# EAGLE library part AT24C02B (library tecsmith_custom_nick_nacks)
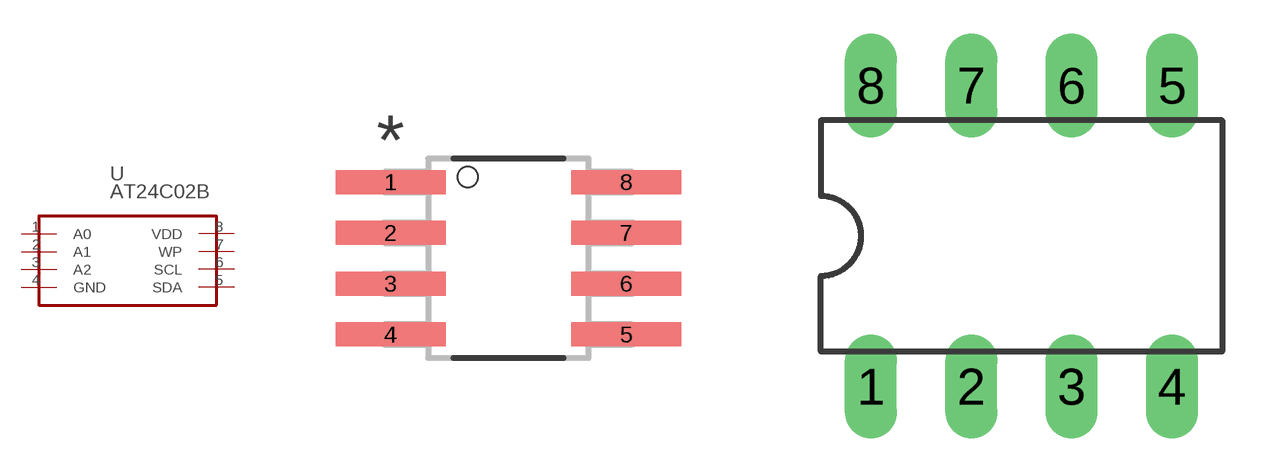
[diagram p5: symbol with the pads of SOIC8-SOP8-SO8-WIDE; footprints SOIC8-SOP8-SO8-WIDE, DIL08]

Designator prefix -

## AT24C02B  [SOIC8-SOP8-SO8-WIDE]
1  A0  in
2  A1  in
3  A2  in
4  GND  pas
5  SDA
6  SCL
7  WP
8  VDD  pwr

## AT24C02BDIL-8  [DIL08]
Pads as for SOIC8-SOP8-SO8-WIDE

## Footprint SOIC8-SOP8-SO8-WIDE (pad centres in mm)
smd 2.75 x 0.6: 1 -2.947,1.905; 2 -2.947,0.635; 3 -2.947,-0.635; 4 -2.947,-1.905; 5 2.947,-1.905; 6 2.947,-0.635; 7 2.947,0.635; 8 2.947,1.905

## Footprint DIL08 (pad centres in mm)
Dual In Line Package
drill 0.813 long: 1 -3.81,-3.81; 2 -1.27,-3.81; 3 1.27,-3.81; 4 3.81,-3.81; 5 3.81,3.81; 6 1.27,3.81; 7 -1.27,3.81; 8 -3.81,3.81